# Altium schematic symbol library national-semiconductor.SCHLIB: 27 symbols
Pins are listed as number, name and electrical type; pins without a type are passive.

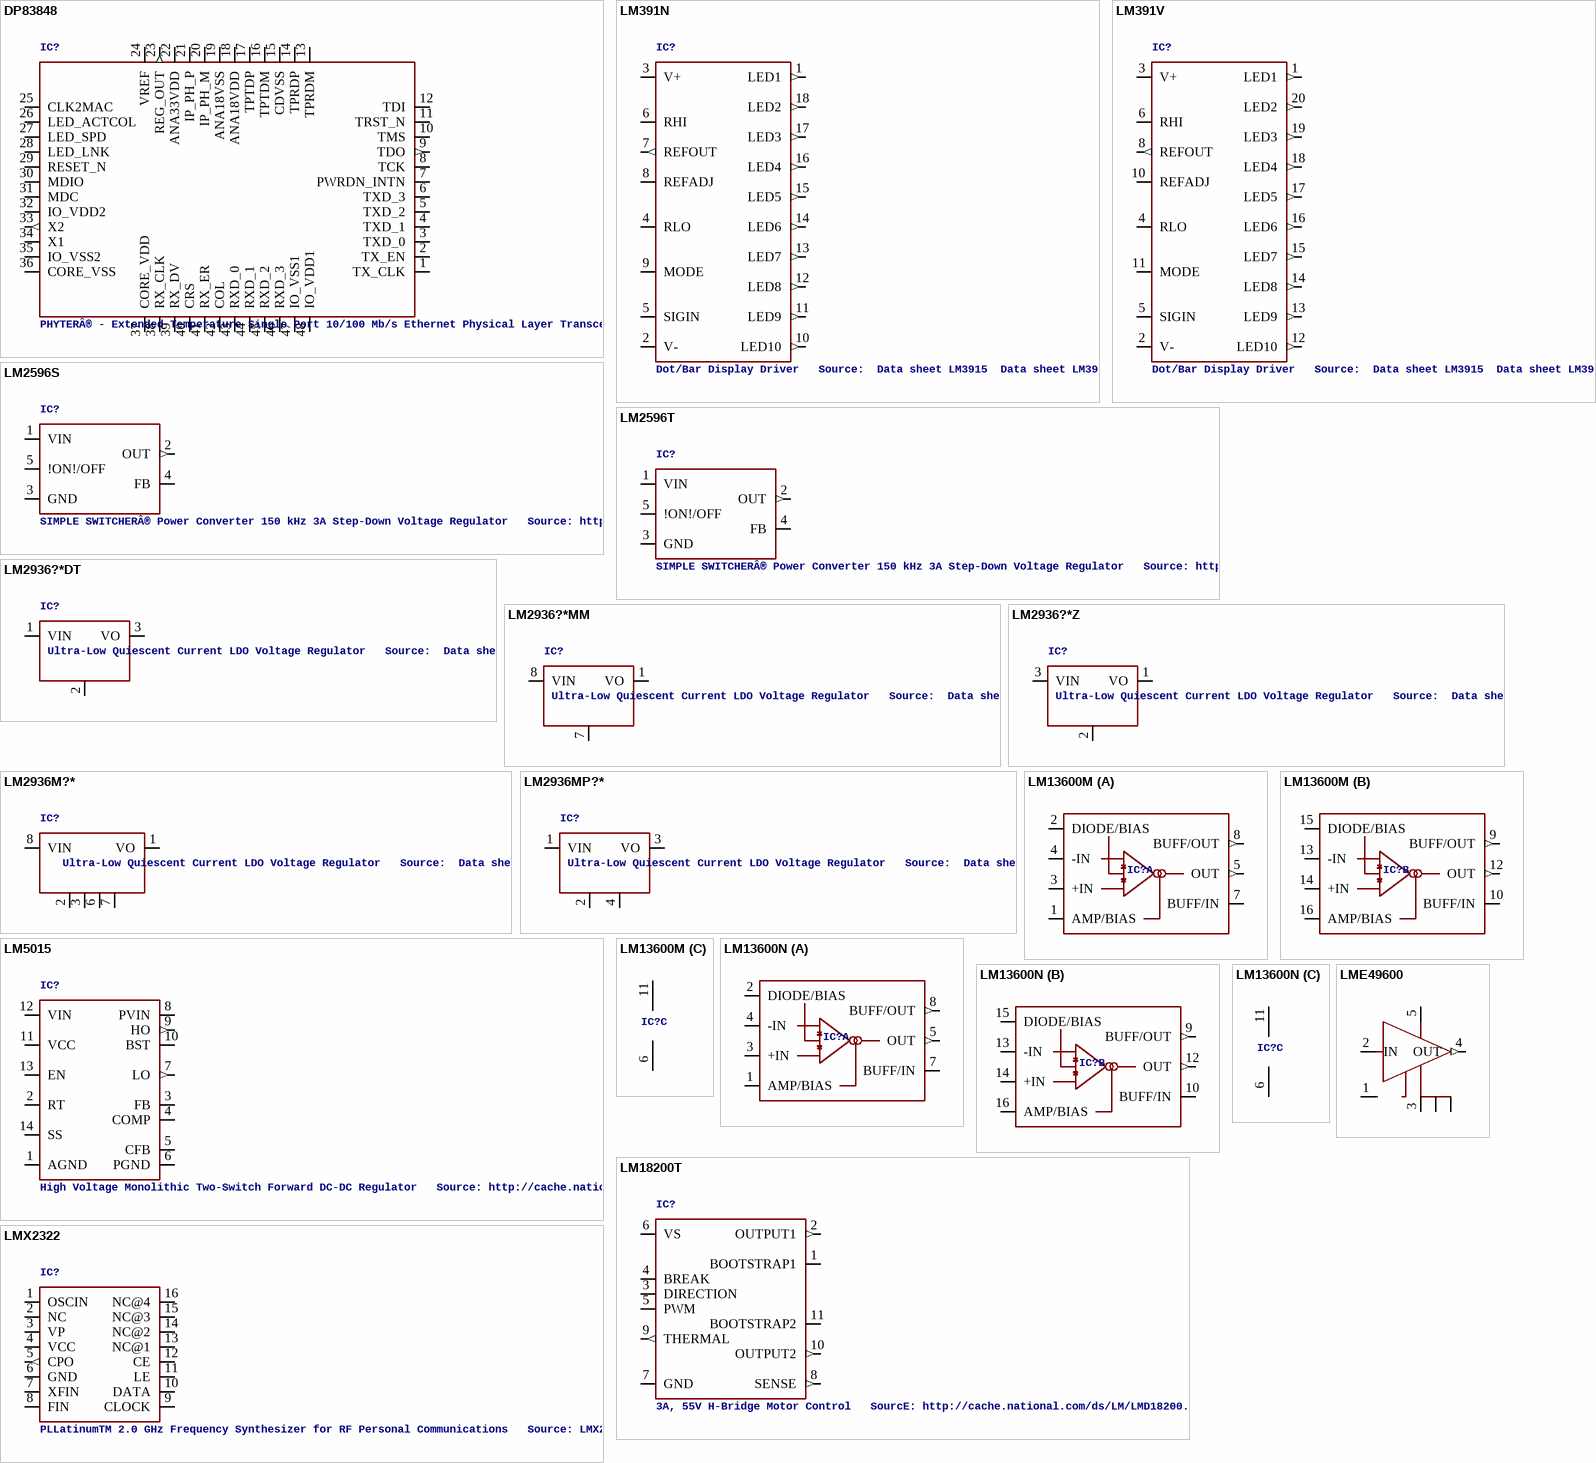
[diagram p0: symbols DP83848 to LMX2322]

## DP83848
designator IC?, comment PHYTERÂ® - Extended Temperature Single Port 10/100 Mb/s Ethernet Physical Layer Transceiver   Auto generated by make-symbol-device-package-bsdl.ulp Rev. 34 Source: dp83848yb.bsdl http://www.national.com/ds/DP/DP83848VYB.pdf
MPN: DP83848VYB; OC_FARNELL: 1286817; OC_NEWARK: 11N4484
footprint LQFP48
pins: 1 TX_CLK, 2 TX_EN, 3 TXD_0, 4 TXD_1, 5 TXD_2, 6 TXD_3, 7 PWRDN_INTN, 8 TCK, 9 TDO (out), 10 TMS, 11 TRST_N, 12 TDI, 13 TPRDM, 14 TPRDP, 15 CDVSS (power), 16 TPTDM, 17 TPTDP, 18 ANA18VDD (power), 19 ANA18VSS (power), 20 IP_PH_M, 21 IP_PH_P, 22 ANA33VDD (power), 23 REG_OUT (out), 24 VREF, 25 CLK2MAC, 26 LED_ACTCOL, 27 LED_SPD, 28 LED_LNK, 29 RESET_N, 30 MDIO, 31 MDC, 32 IO_VDD2 (power), 33 X2 (out), 34 X1, 35 IO_VSS2 (power), 36 CORE_VSS (power), 37 CORE_VDD (power), 38 RX_CLK, 39 RX_DV, 40 CRS, 41 RX_ER, 42 COL, 43 RXD_0, 44 RXD_1, 45 RXD_2, 46 RXD_3, 47 IO_VSS1 (power), 48 IO_VDD1 (power)

## LM391N
designator IC?, comment Dot/Bar Display Driver   Source:  Data sheet LM3915  Data sheet LM3914
footprint DIL18
pins: 1 LED1 (out), 2 V- (power), 3 V+ (power), 4 RLO, 5 SIGIN, 6 RHI, 7 REFOUT (out), 8 REFADJ, 9 MODE, 10 LED10 (out), 11 LED9 (out), 12 LED8 (out), 13 LED7 (out), 14 LED6 (out), 15 LED5 (out), 16 LED4 (out), 17 LED3 (out), 18 LED2 (out)

## LM391V
designator IC?, comment Dot/Bar Display Driver   Source:  Data sheet LM3915  Data sheet LM3914
footprint PLCC20S
pins: 1 LED1 (out), 2 V- (power), 3 V+ (power), 4 RLO, 5 SIGIN, 6 RHI, 8 REFOUT (out), 10 REFADJ, 11 MODE, 12 LED10 (out), 13 LED9 (out), 14 LED8 (out), 15 LED7 (out), 16 LED6 (out), 17 LED5 (out), 18 LED4 (out), 19 LED3 (out), 20 LED2 (out)

## LM2596S
designator IC?, comment SIMPLE SWITCHERÂ® Power Converter 150 kHz 3A Step-Down Voltage Regulator   Source: http://www.national.com/ds/LM/LM2596.pdf
MPN: LM2596S-ADJ/NOPB; MF: NATIONAL SEMICONDUCTOR; OC_FARNELL: 9494367; OC_NEWARK: 41K3842
footprint TO263-5
pins: 1 VIN, 2 OUT (out), 3 GND (power), 4 FB, 5 !ON!/OFF

## LM2596T
designator IC?, comment SIMPLE SWITCHERÂ® Power Converter 150 kHz 3A Step-Down Voltage Regulator   Source: http://www.national.com/ds/LM/LM2596.pdf
MPN: LM2596T-ADJ/LF02; OC_FARNELL: 9494162; OC_NEWARK: 65K5910
footprint T05D
pins: 1 VIN, 2 OUT (out), 3 GND (power), 4 FB, 5 !ON!/OFF

## LM2936?*DT
designator IC?, comment Ultra-Low Quiescent Current LDO Voltage Regulator   Source:  Data sheet
MPN: LM2936DT-3.0; MPN: LM2936DT-3.3.; MPN: LM2936DT-5.0/NOPB; MF: NATIONAL SEMICONDUCTOR; OC_FARNELL: 1286862; OC_NEWARK: 74C4101; OC_FARNELL: 1286863; OC_NEWARK: 26M0361; OC_FARNELL: 1286864; OC_NEWARK: 41K4501
footprint TO252
pins: 1 VIN, 2 GND, 3 VO

## LM2936?*MM
designator IC?, comment Ultra-Low Quiescent Current LDO Voltage Regulator   Source:  Data sheet
MPN: LM2936MM-3.0/NOPB; MPN: LM2936MM-3.3/NOPB; MPN: LM2936MM-5.0/NOPB; MF: NATIONAL SEMICONDUCTOR; OC_FARNELL: 1312710; OC_NEWARK: 41K4516; OC_FARNELL: 1312706; OC_NEWARK: 41K4517; OC_FARNELL: 1312707; OC_NEWARK: 41K4518
footprint MINI-SO8
pins: 1 VO, 7 GND, 8 VIN

## LM2936?*Z
designator IC?, comment Ultra-Low Quiescent Current LDO Voltage Regulator   Source:  Data sheet
MPN: LM2936Z-3.0/NOPB; MPN: LM2936Z-3.3/NOPB; MPN: LM2936Z-5.0/NOPB; MF: NATIONAL SEMICONDUCTOR; OC_FARNELL: 1312709; OC_NEWARK: 41K4531; OC_FARNELL: 1564641; OC_NEWARK: 41K4532; OC_FARNELL: 1150143; OC_NEWARK: 41K4533
footprint TO92
pins: 1 VO, 2 GND, 3 VIN

## LM2936M?*
designator IC?, comment Ultra-Low Quiescent Current LDO Voltage Regulator   Source:  Data sheet
MPN: LM2936M-3.3/NOPB; MPN: LM2936M-5.0/NOPB; MF: NATIONAL SEMICONDUCTOR; OC_FARNELL: 1286868; OC_NEWARK: unknown; OC_FARNELL: 1469059; OC_NEWARK: 41K4514; OC_FARNELL: 9494421; OC_NEWARK: 41K4515
footprint SO08
pins: 1 VO, 2 GND@1, 3 GND@2, 6 GND@3, 7 GND@4, 8 VIN

## LM2936MP?*
designator IC?, comment Ultra-Low Quiescent Current LDO Voltage Regulator   Source:  Data sheet
MPN: LM2936MP-3.0/NOPB; MPN: LM2936MP-3.3/NOPB; MPN: LM2936MP-5.0/NOPB; MF: NATIONAL SEMICONDUCTOR; OC_FARNELL: 1496125; OC_NEWARK: 41K4522; OC_FARNELL: 1469062; OC_NEWARK: 41K4523; OC_FARNELL: 1469063; OC_NEWARK: 41K4524
footprint SOT223
pins: 1 VIN, 2 GND@1, 3 VO, 4 GND@2

## LM5015
designator IC?, comment High Voltage Monolithic Two-Switch Forward DC-DC Regulator   Source: http://cache.national.com/ds/LM/LM5015.pdf
MPN: LM5015MH/NOPB; OC_FARNELL: 1535370; OC_NEWARK: 64M7033
footprint TSSOP14
pins: 1 AGND (power), 2 RT, 3 FB, 4 COMP, 5 CFB (power), 6 PGND (power), 7 LO (out), 8 PVIN, 9 HO (out), 10 BST, 11 VCC (power), 12 VIN, 13 EN, 14 SS

## LM13600M
designator IC?, comment Dual Operational Transconductance Amplifiers with Linearizing Diodes and Buffers   Source: lm13600.PDF  (value not drawn)
footprint SO16
part A pins: 1 AMP/BIAS, 2 DIODE/BIAS, 3 +IN, 4 -IN, 5 OUT (out), 7 BUFF/IN, 8 BUFF/OUT (out)
part B pins: 9 BUFF/OUT (out), 10 BUFF/IN, 12 OUT (out), 13 -IN, 14 +IN, 15 DIODE/BIAS, 16 AMP/BIAS
part C pins: 6 V- (power), 11 V+ (power)

## LM13600N
designator IC?, comment Dual Operational Transconductance Amplifiers with Linearizing Diodes and Buffers   Source: lm13600.PDF  (value not drawn)
footprint DIL16
part A pins: 1 AMP/BIAS, 2 DIODE/BIAS, 3 +IN, 4 -IN, 5 OUT (out), 7 BUFF/IN, 8 BUFF/OUT (out)
part B pins: 9 BUFF/OUT (out), 10 BUFF/IN, 12 OUT (out), 13 -IN, 14 +IN, 15 DIODE/BIAS, 16 AMP/BIAS
part C pins: 6 V- (power), 11 V+ (power)

## LM18200T
designator IC?, comment 3A, 55V H-Bridge Motor Control   SourcE: http://cache.national.com/ds/LM/LMD18200.pdf
OC_FARNELL: unknown; OC_NEWARK: unknown
footprint TO-220-11
pins: 1 BOOTSTRAP1, 2 OUTPUT1 (out), 3 DIRECTION, 4 BREAK, 5 PWM, 6 VS (power), 7 GND (power), 8 SENSE (out), 9 THERMAL (out), 10 OUTPUT2 (out), 11 BOOTSTRAP2

## LME49600
designator IC?, comment High Performance, High Fidelity, High Current Audio Buffer   Source:  Data  sheet  (value not drawn)
footprint TS5B
pins: 1 BW, 2 IN, 3 VEE@1 (power), 4 OUT (out), 5 VCC (power), TH@1 VEE@2 (power), TH@2 VEE@3 (power)

## LMX2322
designator IC?, comment PLLatinumTM 2.0 GHz Frequency Synthesizer for RF Personal Communications   Source: LMX2322.pdf
OC_FARNELL: unknown; OC_NEWARK: unknown
footprint TSSOP16
pins: 1 OSCIN, 2 NC, 3 VP (power), 4 VCC (power), 5 CPO (out), 6 GND (power), 7 XFIN, 8 FIN, 9 CLOCK, 10 DATA, 11 LE, 12 CE, 13 NC@1, 14 NC@2, 15 NC@3, 16 NC@4

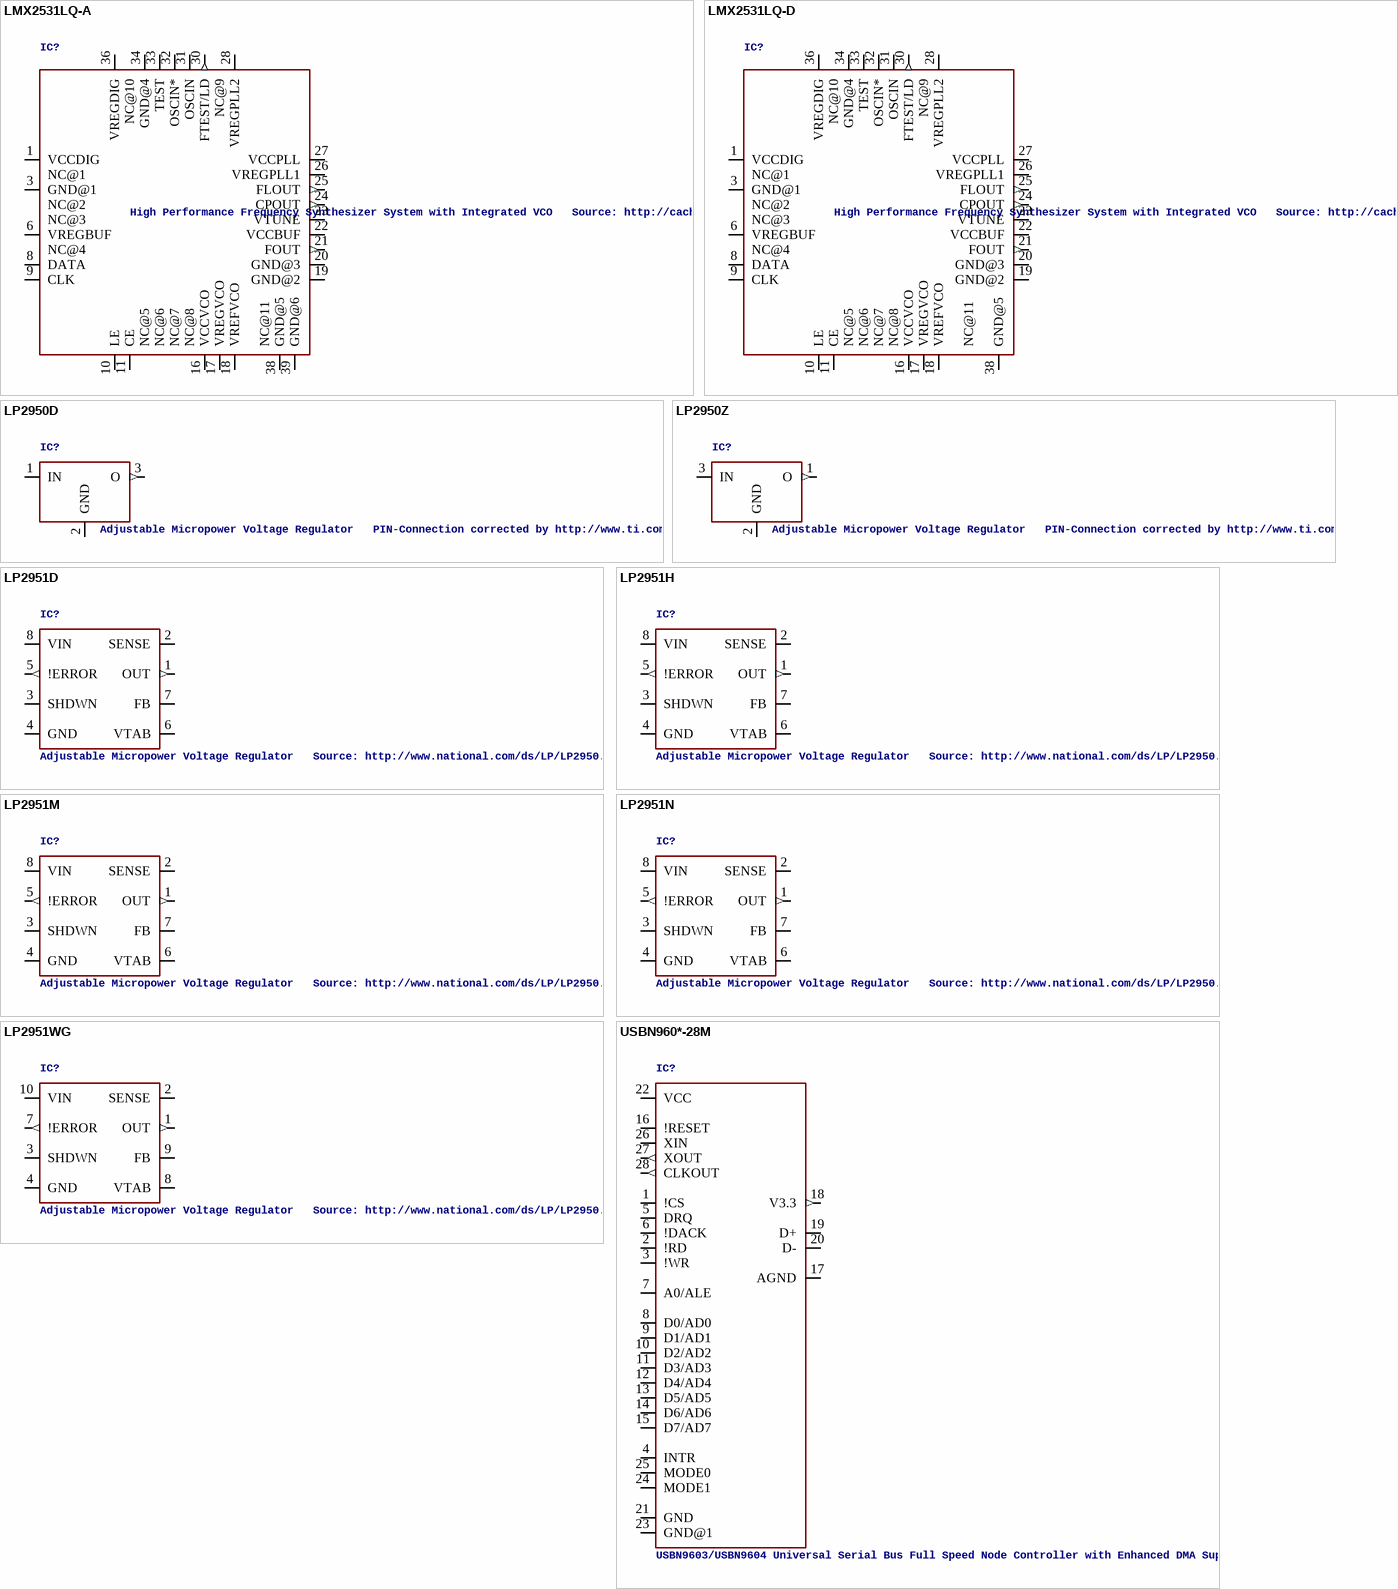
[diagram p1: symbols LMX2531LQ-A to USBN960*-28M]

## LMX2531LQ-A
designator IC?, comment High Performance Frequency Synthesizer System with Integrated VCO   Source: http://cache.national.com/ds/LM/LMX2531LQ1515E.pdf?
MPN: LMX2531LQ1515E; OC_FARNELL: 1609181; OC_NEWARK: 04R9133
footprint LQA036A
pins: 1 VCCDIG (power), 2 NC@1, 3 GND@1 (power), 4 NC@2, 5 NC@3, 6 VREGBUF, 7 NC@4, 8 DATA, 9 CLK, 10 LE, 11 CE, 12 NC@5, 13 NC@6, 14 NC@7, 15 NC@8, 16 VCCVCO, 17 VREGVCO, 18 VREFVCO, 19 GND@2 (power), 20 GND@3 (power), 21 FOUT (out), 22 VCCBUF, 23 VTUNE, 24 CPOUT (out), 25 FLOUT (out), 26 VREGPLL1, 27 VCCPLL, 28 VREGPLL2, 29 NC@9, 30 FTEST/LD (out), 31 OSCIN, 32 OSCIN*, 33 TEST, 34 GND@4 (power), 35 NC@10, 36 VREGDIG, 37 NC@11, 38 GND@5 (power), 39 GND@6 (power)

## LMX2531LQ-D
designator IC?, comment High Performance Frequency Synthesizer System with Integrated VCO   Source: http://cache.national.com/ds/LM/LMX2531LQ1515E.pdf?
MPN: LMX2531LQ1515E/NOPB; OC_FARNELL: 1654247; OC_NEWARK: 11N9172
footprint LQA036D
pins: 1 VCCDIG (power), 2 NC@1, 3 GND@1 (power), 4 NC@2, 5 NC@3, 6 VREGBUF, 7 NC@4, 8 DATA, 9 CLK, 10 LE, 11 CE, 12 NC@5, 13 NC@6, 14 NC@7, 15 NC@8, 16 VCCVCO, 17 VREGVCO, 18 VREFVCO, 19 GND@2 (power), 20 GND@3 (power), 21 FOUT (out), 22 VCCBUF, 23 VTUNE, 24 CPOUT (out), 25 FLOUT (out), 26 VREGPLL1, 27 VCCPLL, 28 VREGPLL2, 29 NC@9, 30 FTEST/LD (out), 31 OSCIN, 32 OSCIN*, 33 TEST, 34 GND@4 (power), 35 NC@10, 36 VREGDIG, 37 NC@11, 38 GND@5 (power)

## LP2950D
designator IC?, comment Adjustable Micropower Voltage Regulator   PIN-Connection corrected by http://www.ti.com/lit/ds/symlink/lp2950-n.pdf
MPN: LP2950CDT-5.0/NOPB; MF: NATIONAL SEMICONDUCTOR; OC_FARNELL: 1469117; OC_NEWARK: 41K6539
footprint TO252
pins: 1 IN, 2 GND (power), 3 O (out)

## LP2950Z
designator IC?, comment Adjustable Micropower Voltage Regulator   PIN-Connection corrected by http://www.ti.com/lit/ds/symlink/lp2950-n.pdf
MPN: LP2950CZ-5.0/NOPB; MF: NATIONAL SEMICONDUCTOR; OC_FARNELL: 1150320; OC_NEWARK: 41K6545
footprint TO92
pins: 1 O (out), 2 GND (power), 3 IN

## LP2951D
designator IC?, comment Adjustable Micropower Voltage Regulator   Source: http://www.national.com/ds/LP/LP2950.pdf
MPN: LP2951D; OC_FARNELL: 1389844; OC_NEWARK: 48M0679
footprint LLP8
pins: 1 OUT (out), 2 SENSE, 3 SHDWN, 4 GND (power), 5 !ERROR (out), 6 VTAB, 7 FB, 8 VIN

## LP2951H
designator IC?, comment Adjustable Micropower Voltage Regulator   Source: http://www.national.com/ds/LP/LP2950.pdf
OC_FARNELL: unknown; OC_NEWARK: unknown
footprint H08C
pins: 1 OUT (out), 2 SENSE, 3 SHDWN, 4 GND (power), 5 !ERROR (out), 6 VTAB, 7 FB, 8 VIN

## LP2951M
designator IC?, comment Adjustable Micropower Voltage Regulator   Source: http://www.national.com/ds/LP/LP2950.pdf
MPN: LP2951CM; MF: FAIRCHILD SEMICONDUCTOR; OC_FARNELL: 9488561; OC_NEWARK: 78K6014
footprint SO08
pins: 1 OUT (out), 2 SENSE, 3 SHDWN, 4 GND (power), 5 !ERROR (out), 6 VTAB, 7 FB, 8 VIN

## LP2951N
designator IC?, comment Adjustable Micropower Voltage Regulator   Source: http://www.national.com/ds/LP/LP2950.pdf
MPN: LP2951CN; MF: ON SEMICONDUCTOR; OC_FARNELL: 9489320; OC_NEWARK: 20C0799
footprint DIL08
pins: 1 OUT (out), 2 SENSE, 3 SHDWN, 4 GND (power), 5 !ERROR (out), 6 VTAB, 7 FB, 8 VIN

## LP2951WG
designator IC?, comment Adjustable Micropower Voltage Regulator   Source: http://www.national.com/ds/LP/LP2950.pdf
OC_FARNELL: unknown; OC_NEWARK: unknown
footprint WG10A
pins: 1 OUT (out), 2 SENSE, 3 SHDWN, 4 GND (power), 7 !ERROR (out), 8 VTAB, 9 FB, 10 VIN

## USBN960*-28M
designator IC?, comment USBN9603/USBN9604 Universal Serial Bus Full Speed Node Controller with Enhanced DMA Support   Source: http://www.national.com .. USBN9603.pdf
MPN: USBN9603-28M/NOPB; MPN: USBN9604-28M; MF: NATIONAL SEMICONDUCTOR; OC_FARNELL: 1214542; OC_NEWARK: 41K8479; OC_FARNELL: 1214543; OC_NEWARK: 34C6795
footprint MSO28W
pins: 1 !CS, 2 !RD, 3 !WR, 4 INTR, 5 DRQ, 6 !DACK, 7 A0/ALE, 8 D0/AD0, 9 D1/AD1, 10 D2/AD2, 11 D3/AD3, 12 D4/AD4, 13 D5/AD5, 14 D6/AD6, 15 D7/AD7, 16 !RESET, 17 AGND (power), 18 V3.3 (out), 19 D+, 20 D-, 21 GND (power), 22 VCC (power), 23 GND@1 (power), 24 MODE1, 25 MODE0, 26 XIN, 27 XOUT (out), 28 CLKOUT (out)

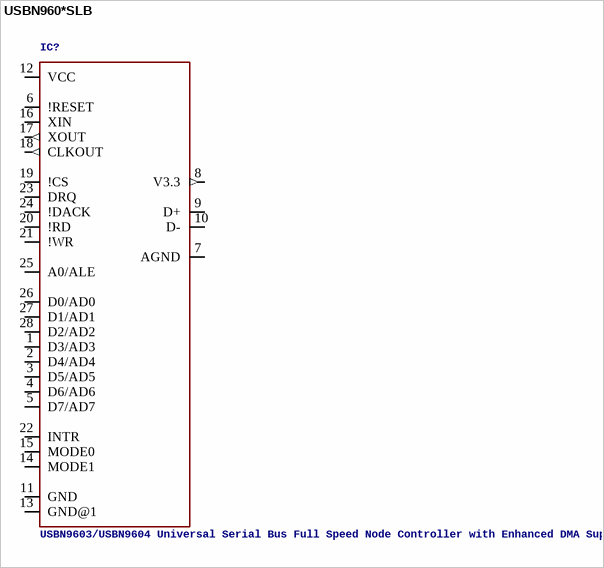
[diagram p2: symbol USBN960*SLB]

## USBN960*SLB
designator IC?, comment USBN9603/USBN9604 Universal Serial Bus Full Speed Node Controller with Enhanced DMA Support   Source: http://www.national.com .. USBN9603.pdf
MPN: USBN9603SLB; MPN: USBN9604SLB; MF: NATIONAL SEMICONDUCTOR; OC_FARNELL: unknown; OC_NEWARK: 22M2133; OC_NEWARK: 41J8499
footprint LSB28
pins: 1 D3/AD3, 2 D4/AD4, 3 D5/AD5, 4 D6/AD6, 5 D7/AD7, 6 !RESET, 7 AGND (power), 8 V3.3 (out), 9 D+, 10 D-, 11 GND (power), 12 VCC (power), 13 GND@1 (power), 14 MODE1, 15 MODE0, 16 XIN, 17 XOUT (out), 18 CLKOUT (out), 19 !CS, 20 !RD, 21 !WR, 22 INTR, 23 DRQ, 24 !DACK, 25 A0/ALE, 26 D0/AD0, 27 D1/AD1, 28 D2/AD2